# EAGLE library part 535512-06 (library con-tyco-modu)
RECEPTACAL
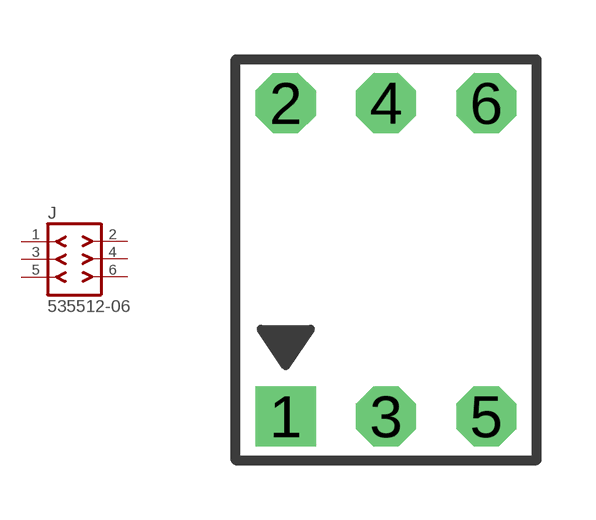
[diagram p11: symbol with the pads of 535512-06; footprint 535512-06]

Designator prefix J

## 535512-06  [535512-06]
1  1  pas
2  2  pas
3  3  pas
4  4  pas
5  5  pas
6  6  pas

## Footprint 535512-06 (pad centres in mm)
AMPMODU - 535512 Series
drill 1.016 square: 1 -2.54,0
drill 1.016 octagon: 2 -2.54,7.938; 3 0,0; 4 0,7.938; 5 2.54,0; 6 2.54,7.938